# EAGLE library part 2526-SMD-MCU (library chuni)
WR-BHD 2.54mm Male SMT Box Header High Temperature, 26 Pins=>Code : Con_WTB_BHD_2.54_Male_SMT_612X2620621(X=0;X=3) <http://katalog.we-online.de/media/thumbs2/eican/thb_Con_WTB_BHD_2.54_Male_SMT_6120xx20621_pf2.jpg> 6123XX20621: http://katalog.we-online.de/en/em/BHD_2_54_SMT_MALE_BOX_HEADER_REEL_6123XX20621 6120XX20621: http://katalog.we-online.de/en/em/612_0xx_206_21 Created 2014-06-05, Karrer Zheng 2014 (C) Würth Elektronik
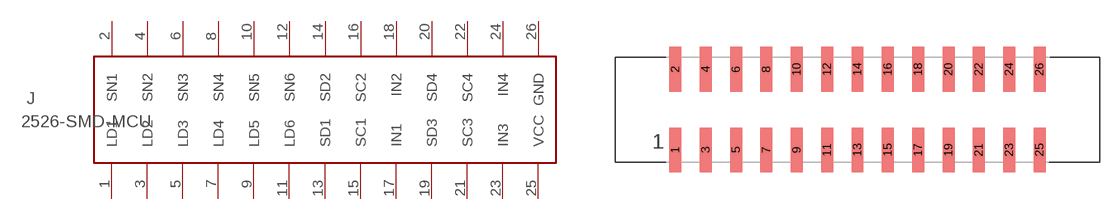
[diagram p5: symbol with the pads of 612X2620621; footprint 612X2620621]

Designator prefix J

## 2526-SMD-MCU  [612X2620621]
1  LD1  pas
2  SN1  pas
3  LD2  pas
4  SN2  pas
5  LD3  pas
6  SN3  pas
7  LD4  pas
8  SN4  pas
9  LD5  pas
10  SN5  pas
11  LD6  pas
12  SN6  pas
13  SD1  pas
14  SD2  pas
15  SC1  pas
16  SC2  pas
17  IN1  pas
18  IN2  pas
19  SD3  pas
20  SD4  pas
21  SC3  pas
22  SC4  pas
23  IN3  pas
24  IN4  pas
25  VCC  pas
26  GND  pas

## Footprint 612X2620621 (pad centres in mm)
WR-BHD 2.54mm Male SMT Box Header High Temperature, 26 pins
smd 1 x 3.75: 1 -15.24,-3.375; 2 -15.24,3.375; 3 -12.7,-3.375; 4 -12.7,3.375; 5 -10.16,-3.375; 6 -10.16,3.375; 7 -7.62,-3.375; 8 -7.62,3.375; 9 -5.08,-3.375; 10 -5.08,3.375; 11 -2.54,-3.375; 12 -2.54,3.375; 13 0,-3.375; 14 0,3.375; 15 2.54,-3.375; 16 2.54,3.375; 17 5.08,-3.375; 18 5.08,3.375; 19 7.62,-3.375; 20 7.62,3.375; 21 10.16,-3.375; 22 10.16,3.375; 23 12.7,-3.375; 24 12.7,3.375; 25 15.24,-3.375; 26 15.24,3.375